# Altium footprint library TL1105NF250Q.PcbLib: 1 footprints
Each footprint in its own frame and in the unit in brackets; x right, y up, seen from the top. Pads: shape width x height; smd on the part's side, far side on the other; paste and mask are expansions set on the pad; w line width, h text height; cw(c..) or ccw(c..) is an arc to the next point about the centre after c.
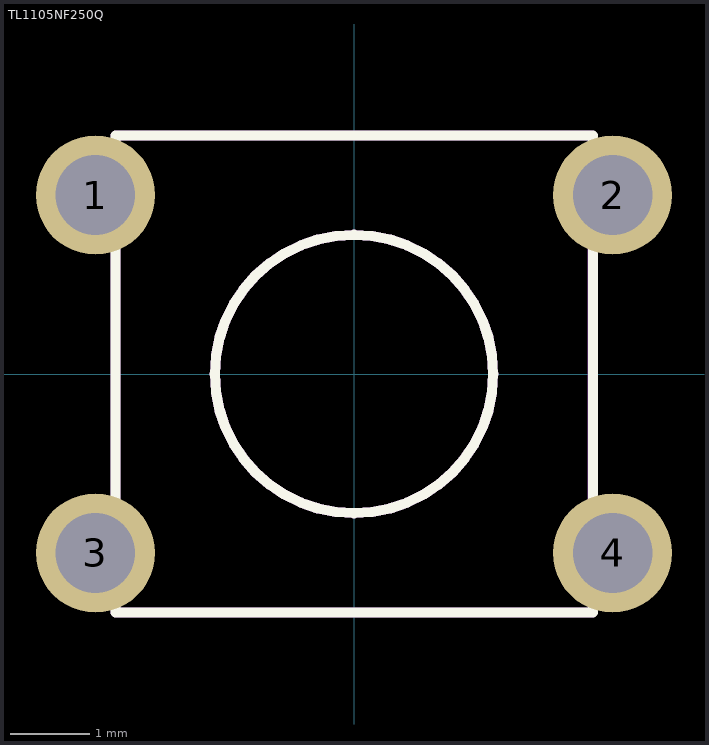
[diagram p0: the footprint, top view; thin cyan lines are the x and y axes]

## TL1105NF250Q [mm]
pads (4):
  round 1.5 hole 1: 1(-3.25,2.25) 2(3.25,2.25) 3(-3.25,-2.25) 4(3.25,-2.25)
Top Overlay:
  circle w0.127: c0,0 r1.75
  lines w0.127: -3,-2.997 -3,2.997 3.002,2.997 3.002,-3 -2.992,-3
Mechanical 13:
  circle w0.127: c0,0 r1.75
  lines w0.127: -3,-3 3,-3 3,3 -3,3 -3,-3
3D body "pulsador Tactile switch 6x6x9_5mm.STEP": height 9.56, standoff -3.21, extent -3.96,-3.1 3.96,3.1